# Altium footprint library MultiRotor.PcbLib: 14 footprints
Each footprint in its own frame and in the unit in brackets; x right, y up, seen from the top. Pads: shape width x height; smd on the part's side, far side on the other; paste and mask are expansions set on the pad; w line width, h text height; cw(c..) or ccw(c..) is an arc to the next point about the centre after c.
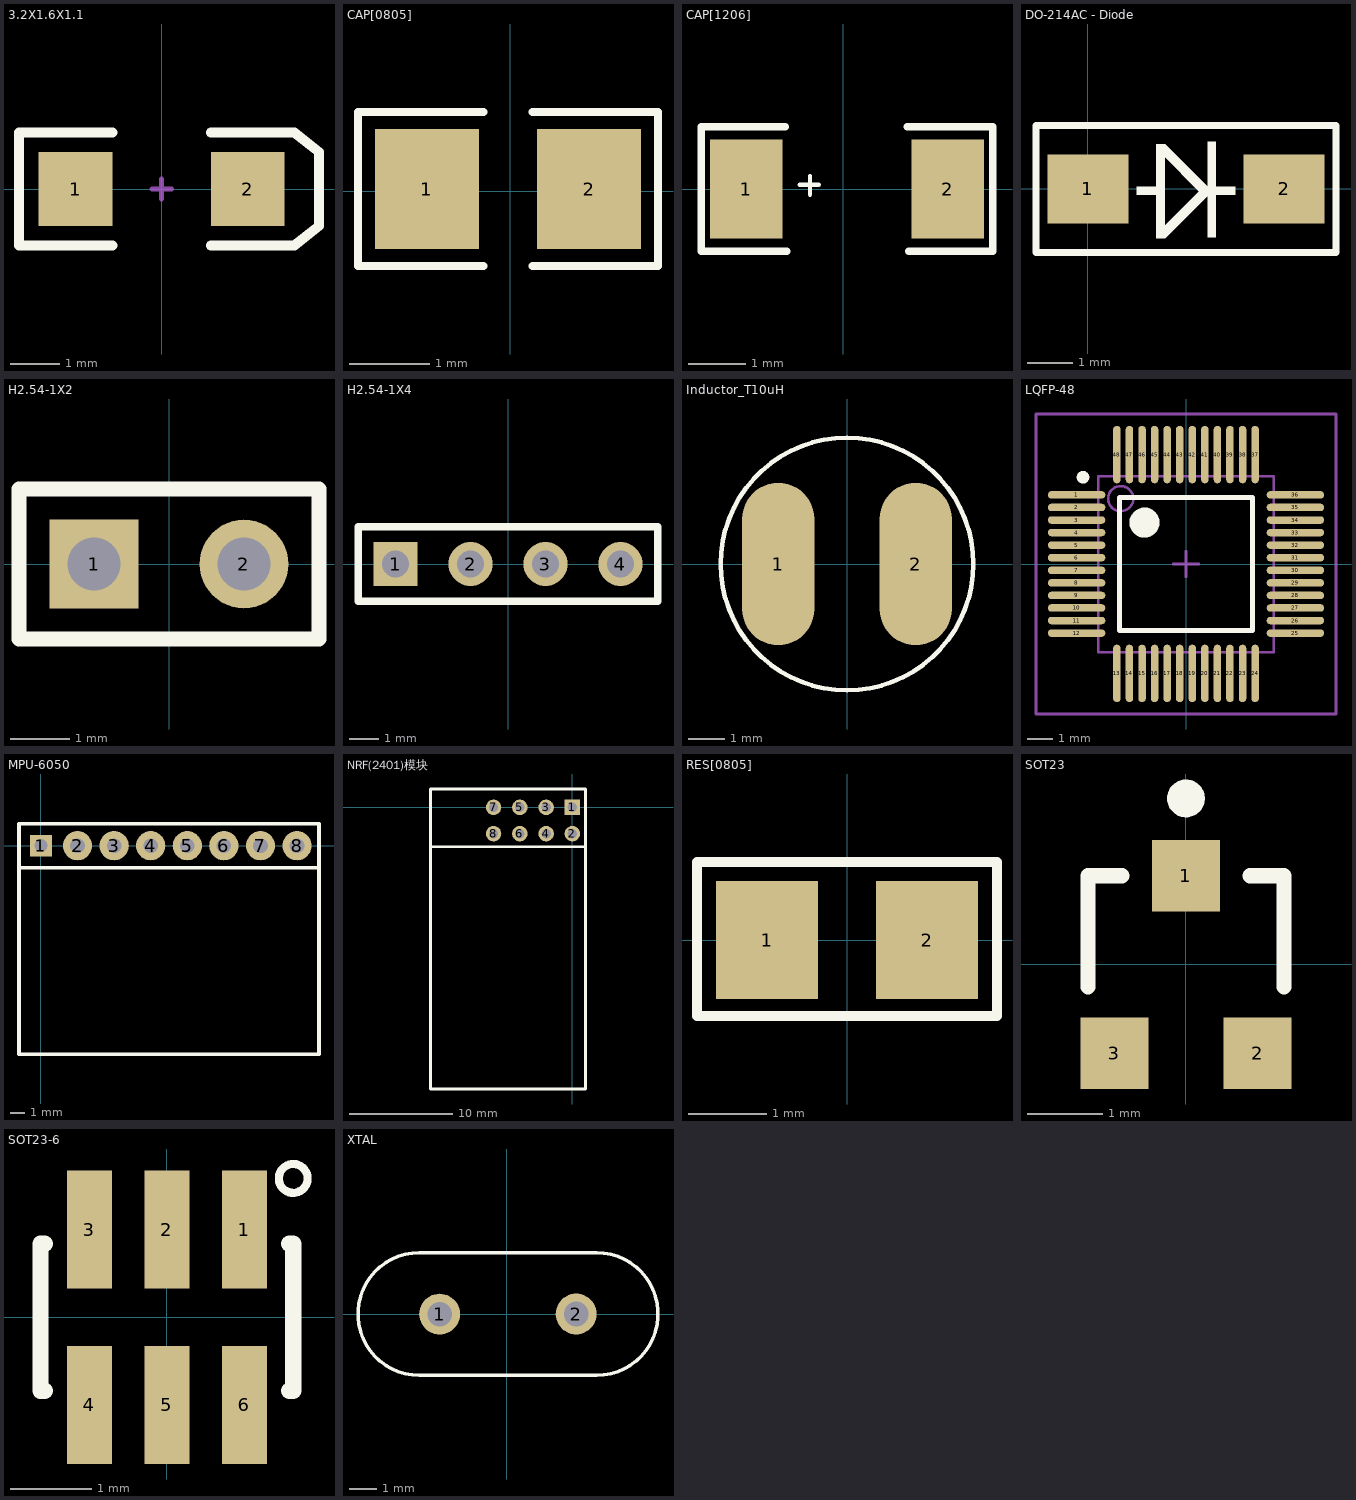
[diagram p0: the footprints below, top view; thin cyan lines are the x and y axes]

## 3.2X1.6X1.1 [mm] "SMT LED; 2 Flat Leads"
height 1.2
pads (2):
  rect 1.5x1.5 smd: 1(-1.75,0) 2(1.75,0)
Top Overlay:
  lines w0.2: -1,-1.15 -2.9,-1.15 -2.9,1.15 -1,1.15 ; 1,-1.15 2.7,-1.15 3.2,-0.75 3.2,0.75 2.7,1.15 1,1.15
Mechanical 1:
  lines w0.1: -0.2,0 0.2,0 ; 0,-0.2 0,0.2

## CAP[0805] [mm]
height 1.422
pads (2):
  rect 1.3x1.5 smd: 1(-1.041,0.025) 2(0.991,0.025)
Top Overlay:
  lines w0.102: -0.33,-0.94 -1.905,-0.94 -1.905,0.991 -0.33,0.991 ; 0.279,-0.94 1.854,-0.94 1.854,0.991 0.279,0.991

## CAP[1206] [mil]
pads (2):
  rect 50x68 smd: 1(-67,0) 2(72,0)
Top Overlay:
  lines w3: -30,3 -17,3 ; -23,-4 -23,9
  lines w5: -40,43 -98,43 -98,-43 -39,-43 ; 44,43 103,43 103,-43 45,-43
3D body: height 63.39, standoff 0, extent -62.81,-31.49 62.81,31.5

## DO-214AC - Diode [mil]
pads (2):
  rect 70x60 smd: 1(0,0) 2(170,0)
Top Overlay:
  region: 128,-5 128,2 109,2 109,-5
  region: 100.57,-6.58 106.58,-0.58 67,39 60.99,32.99
  region: 60,-5 60,2 42,2 42,-5
  rectangle: 103.5,-42 111,41
  rectangle: 59,-43 67,39
  region: 106.61,-3.46 100.61,2.55 61.03,-37.03 67.04,-43.04
  lines w6: -45,-55 -45,55 215,55 215,-55 -45,-55

## H2.54-1X2 [mm]
height 8.89
pads (2):
  rect 1.5x1.5 hole 0.9: 1(-1.27,0)
  round 1.5 hole 0.9: 2(1.27,0)
Top Overlay:
  lines w0.254: -2.54,-1.27 -2.54,1.27 2.54,1.27 2.54,-1.27 -2.54,-1.27

## H2.54-1X4 [mm]
height 8.89
pads (4):
  rect 1.5x1.5 hole 0.9: 1(-3.81,0)
  round 1.5 hole 0.9: 2(-1.27,0) 3(1.27,0) 4(3.81,0)
Top Overlay:
  lines w0.254: -5.08,-1.27 5.08,-1.27 5.08,1.27 -5.08,1.27 -5.08,-1.27

## Inductor_T10uH [mm]
pads (2):
  oval 2x4.5 smd: 1(-1.905,0) 2(1.905,0)
Top Overlay:
  circle w0.127: c0,0 r3.5
3D body: height 6.35, standoff 5.08, extent -3.51,-3.51 3.51,3.51
3D body: height 5.08, standoff 1.27, extent -2.802,-2.802 2.548,2.548
3D body: height 1.27, standoff 0, extent -3.51,-3.51 3.51,3.51

## LQFP-48 [mm]
pads (48):
  oval 2.286x0.3 smd: 1(-4.354,2.75) 2(-4.354,2.25) 3(-4.354,1.75) 4(-4.354,1.25) 5(-4.354,0.75) 6(-4.354,0.25) 7(-4.354,-0.25) 8(-4.354,-0.75) 9(-4.354,-1.25) 10(-4.354,-1.75) 11(-4.354,-2.25) 12(-4.354,-2.75) 25(4.354,-2.75) 26(4.354,-2.25) 27(4.354,-1.75) 28(4.354,-1.25) 29(4.354,-0.75) 30(4.354,-0.25) 31(4.354,0.25) 32(4.354,0.75) 33(4.354,1.25) 34(4.354,1.75) 35(4.354,2.25) 36(4.354,2.75)
  oval 0.3x2.286 smd: 13(-2.75,-4.354) 14(-2.25,-4.354) 15(-1.75,-4.354) 16(-1.25,-4.354) 17(-0.75,-4.354) 18(-0.25,-4.354) 19(0.25,-4.354) 20(0.75,-4.354) 21(1.25,-4.354) 22(1.75,-4.354) 23(2.25,-4.354) 24(2.75,-4.354) 37(2.75,4.354) 38(2.25,4.354) 39(1.75,4.354) 40(1.25,4.354) 41(0.75,4.354) 42(0.25,4.354) 43(-0.25,4.354) 44(-0.75,4.354) 45(-1.25,4.354) 46(-1.75,4.354) 47(-2.25,4.354) 48(-2.75,4.354)
Top Overlay:
  circle w0.25: c-4.1,3.45 r0.125
  circle w0.6: c-1.65,1.65 r0.3
  lines w0.2: -2.65,-2.65 -2.65,2.65 2.65,2.65 2.65,-2.65 -2.65,-2.65
Mechanical 13:
  circle w0.1: c-2.6,2.6 r0.5
  lines w0.1: -3.5,-3.505 -3.5,3.5 3.5,3.5 3.5,-3.505 -3.5,-3.505
Mechanical 15:
  lines w0.1: -0.5,0 0.5,0 ; 0,-0.5 0,0.5 ; -5.969,-5.969 -5.969,5.969 5.969,5.969 5.969,-5.969 -5.969,-5.969
3D body: height 1.6, standoff 0, extent -3.5,-3.5 3.5,3.5

## MPU-6050 [mil]
height 300
pads (8):
  rect 59.06x59.06 hole 35.43: 1(0,0)
  round 80 hole 40: 2(100,0) 3(200,0) 4(300,0) 5(400,0) 6(500,0) 7(600,0) 8(700,0)
Top Overlay:
  lines w10: -60,60 -60,-569.92 760,-569.92 760,60 ; -60,60 -60,-60 760,-60 760,60 ; -60,60 760,60
3D body: height 336.22, standoff -118.11, extent -50,-50 750,50

## NRF(2401)模块 [mm]
height 1.6
pads (8):
  rect 1.5x1.5 hole 0.9: 1(0,0)
  round 1.5 hole 0.9: 2(0,-2.54) 3(-2.54,0) 4(-2.54,-2.54) 5(-5.08,0) 6(-5.08,-2.54) 7(-7.62,0) 8(-7.62,-2.54)
Top Overlay:
  lines w0.254: -13.716,-3.81 1.27,-3.81 ; -13.716,-27.222 -13.716,1.778 1.27,1.778 1.27,-27.222 -13.716,-27.222

## RES[0805] [mm]
height 0.711
pads (2):
  rect 1.3x1.5 smd: 1(-1.016,0) 2(1.016,0)
Top Overlay:
  lines w0.127: -1.905,-0.965 -1.905,0.991 1.905,0.991 1.905,-0.965 -1.905,-0.965

## SOT23 [mm] "SOT-23; 3 Leads; Body 3.1 x 2.5 mm, inc. leads (LxW max), Alternate Lead Configuration"
height 1.1
pads (3):
  rect 0.9x0.95 smd: 1(0,1.175) 2(0.95,-1.175) 3(-0.95,-1.175)
Top Overlay:
  circle w0.25: c0,2.2 r0.125
  lines w0.2: -1.3,-0.3 -1.3,1.175 -0.85,1.175 ; 0.85,1.175 1.3,1.175 1.3,-0.3

## SOT23-6 [mm] "SOT-23/SC-74A; 5 Leads; Body 3.1 x 3 mm, inc. leads (LxW max)"
height 1.45
pads (6):
  rect 0.55x1.45 smd: 1(0.95,1.075) 2(0,1.075) 3(-0.95,1.075) 4(-0.95,-1.075) 5(0,-1.075) 6(0.95,-1.075)
Top Overlay:
  circle w0.1: c1.549,1.702 r0.177
  lines w0.2: -1.5,-0.9 -1.55,-0.9 -1.55,0.9 -1.5,0.9 ; 1.5,-0.9 1.55,-0.9 1.55,0.9 1.5,0.9
3D body: height 1.08, standoff -0.01, extent -1.397,-1.194 1.397,1.232

## XTAL [mm]
height 3.302
pads (2):
  round 1.5 hole 0.9: 1(-2.465,-0.002) 2(2.54,0)
Top Overlay:
  lines w0.127: -3.21,-2.25 cw(c-3.21,0) -3.21,2.25 3.29,2.25 cw(c3.29,0) 3.29,-2.25 -3.21,-2.25